# EAGLE library part VL53L0X (library HeRo)
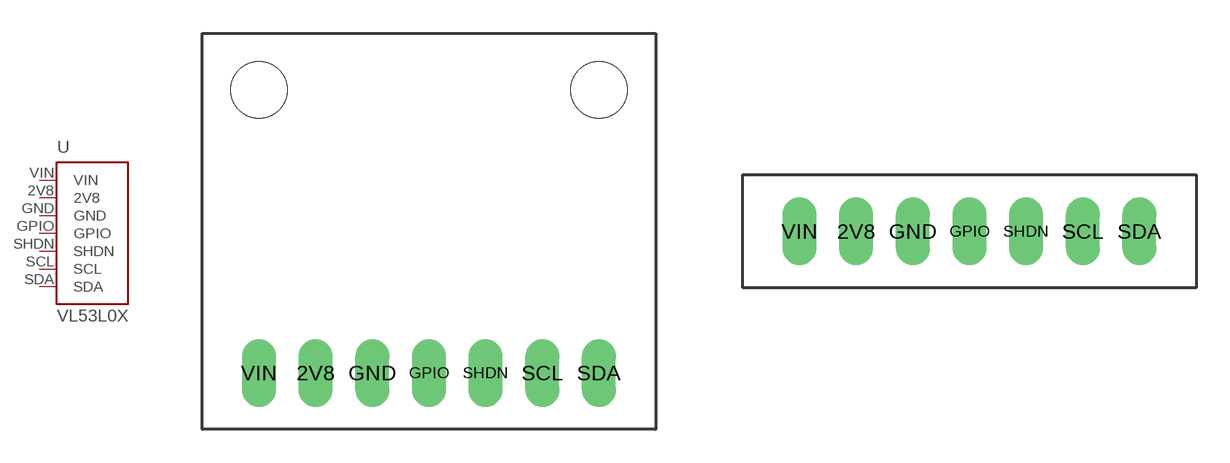
[diagram p6: symbol with the pads of VL53L0X_H; footprints VL53L0X_H, VL53L0X_V]

Designator prefix -

## VL53L0XH  [VL53L0X_H]
2V8  2V8
GND  GND
GPIO  GPIO
SCL  SCL
SDA  SDA
SHDN  SHDN
VIN  VIN

## VL53L0XV  [VL53L0X_V]
Pads as for VL53L0X_H

## Footprint VL53L0X_H (pad centres in mm)
drill 1.016 long: 2V8 -5.08,-6.35; GND -2.54,-6.35; GPIO 0,-6.35; SCL 5.08,-6.35; SDA 7.62,-6.35; SHDN 2.54,-6.35; VIN -7.62,-6.35
hole 2.54 at -7.62,6.35
hole 2.54 at 7.62,6.35

## Footprint VL53L0X_V (pad centres in mm)
drill 1.016 long: 2V8 -5.08,-6.35; GND -2.54,-6.35; GPIO 0,-6.35; SCL 5.08,-6.35; SDA 7.62,-6.35; SHDN 2.54,-6.35; VIN -7.62,-6.35